# Altium footprint library 3Position_MaleHeader.PcbLib: 1 footprints
Each footprint in its own frame and in the unit in brackets; x right, y up, seen from the top. Pads: shape width x height; smd on the part's side, far side on the other; paste and mask are expansions set on the pad; w line width, h text height; cw(c..) or ccw(c..) is an arc to the next point about the centre after c.
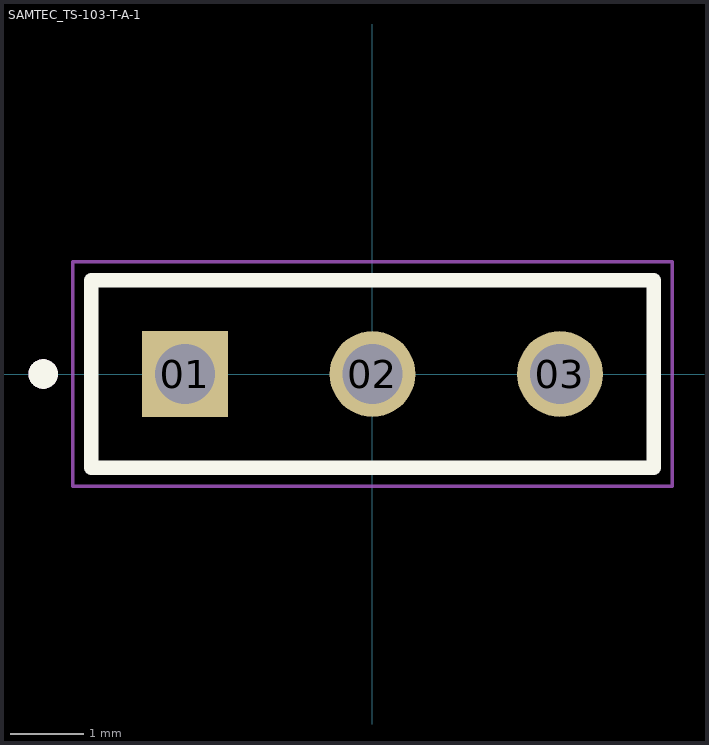
[diagram p0: the footprint, top view; thin cyan lines are the x and y axes]

## SAMTEC_TS-103-T-A-1 [mil]
pads (3):
  rect 45.78x45.78 / inner round 45.78 / far side rect 45.78x45.78 hole 32: 01(-100,0)
  round 45.78 hole 32: 02(0,0) 03(100,0)
Top Overlay:
  circle w7.87: c-175.59,0 r3.94
  lines w7.87: -150,-50 150,-50 150,50 -150,50 -150,-50
Mechanical 13:
  circle w7.87: c-175.59,0 r3.94
  lines w3.94: -150,-50 -150,50 ; -150,-50 150,-50 ; -150,-50 -150,50 ; -150,50 150,50 ; -150,50 150,50 ; 150,-50 150,50 ; 150,-50 150,50
Mechanical 15:
  lines w1.97: -159.84,-59.84 159.84,-59.84 159.84,59.84 -159.84,59.84 -159.84,-59.84
3D body "Header_male_2_54mm_1row_3position_SMT.STEP": height 341.22, standoff -139.09, extent -150,-50 150,50